# Altium schematic symbol library TSDM_2017.SchLib: 6 symbols
Pins are listed as number, name and electrical type; pins without a type are passive.

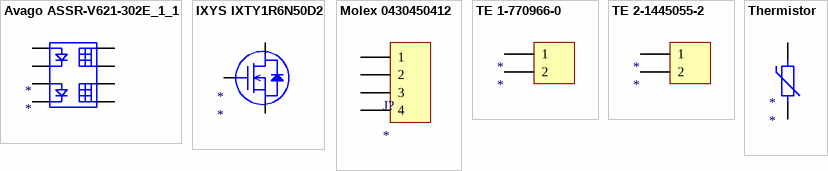
[diagram p0: symbols Avago ASSR-V621-302E_1_1 to Thermistor]

## Avago ASSR-V621-302E_1_1
designator *
Dual Photovoltaic MOSFET Driver; Supplier 1: Digi-Key; Supplier Part Number 1: 516-3173-5-ND; ComponentLink1Description: Datasheet; ComponentLink1URL: C:\Users\thekenu\Documents\UBC(GitHub)\Formula E\TSDM_2017-Board\Datasheets\Avago ASSR-V621-302E Datasheet.pdf
footprint Avago ASSR-V621-302E (8-SMD) (Dual Photovoltaic MOSFET Driver)
pins: 1 ANODE, 2 CATHODE, 3 ANODE, 4 CATHODE, 5 OUT- (power), 6 OUT+ (power), 7 OUT- (power), 8 OUT+ (power)

## IXYS IXTY1R6N50D2
designator *
500V Depletion-Mode N-MOSFET; Supplier 1: Digi-Key; Supplier Part Number 1: IXTY1R6N50D2-ND
footprint IXYS IXTY1R6N50D2 (DPAK) (500V Depletion-Mode N-MOSFET)
pins: 1 GATE, 3 SOURCE, 4 DRAIN

## Molex 0430450412
designator J?
CONN HEADER VERT 4POS 3MM
footprint MOLEX MICRO-FIT 4POS (Connector Header Through Hole 4 position 600V 0.118" (3.00mm))
pins: 1, 2, 3, 4

## TE 1-770966-0
designator *
Mini-Universal MATE-N-LOK 2-Pin Female Connector; Supplier 1: Digi-Key; Supplier Part Number 1: A32471-ND; ComponentLink1URL: C:\Users\thekenu\Documents\UBC(GitHub)\Formula E\TSDM_2017-Board\Datasheets\TE 770966-Series Datasheet.pdf; ComponentLink1Description: Datasheet
footprint TE 1-770966-0 (Mini-Universal MATE-N-LOK 2-Pin Female Connector)
pins: 1, 2

## TE 2-1445055-2
designator *
Micro MATE-N-LOK 2-Pin Female Connector; Supplier 1: Digi-Key; Supplier Part Number 1: A33207-ND; ComponentLink1Description: Datasheet; ComponentLink1URL: C:\Users\thekenu\Documents\UBC(GitHub)\Formula E\TSDM_2017-Board\Datasheets\TE 1445055-Series Datasheet.pdf
footprint TE 2-1445055-2 (Micro MATE-N-LOK 2-Pin Female Connector)
pins: 1, 2

## Thermistor
designator *
Thermistor
pins: 1, 2